# Altium footprint library SchottlyDiode_STPS1H100A_SMA.PcbLib: 1 footprints
Each footprint in its own frame and in the unit in brackets; x right, y up, seen from the top. Pads: shape width x height; smd on the part's side, far side on the other; paste and mask are expansions set on the pad; w line width, h text height; cw(c..) or ccw(c..) is an arc to the next point about the centre after c.
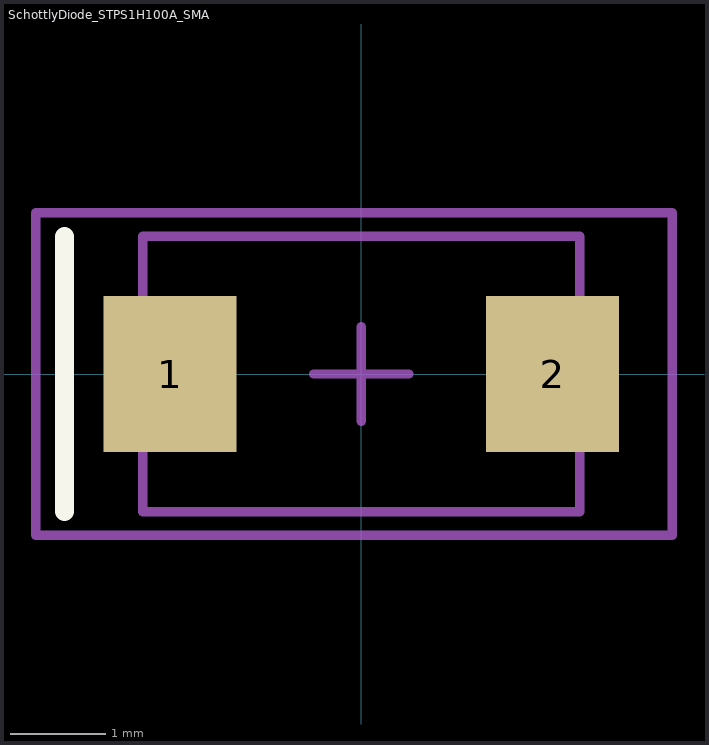
[diagram p0: the footprint, top view; thin cyan lines are the x and y axes]

## SchottlyDiode_STPS1H100A_SMA [mm]
height 2.45
pads (2):
  rect 1.4x1.64 smd: 1(-2.015,0) 2(2.015,0)
Top Overlay:
  lines w0.2: -3.125,-1.45 -3.125,1.45
Mechanical 13:
  lines w0.1: -2.3,-1.45 -2.3,1.45 2.3,1.45 2.3,-1.45 -2.3,-1.45
Mechanical 15:
  lines w0.1: -0.5,0 0.5,0 ; 0,-0.5 0,0.5 ; -3.429,-1.7 -3.429,1.7 3.275,1.7 3.275,-1.7 -3.429,-1.7
3D body: height 2.45, standoff 0.05, extent -2.3,-1.45 2.3,1.45